# Altium footprint library CAP_SMD_CAN.PcbLib: 1 footprints
Each footprint in its own frame and in the unit in brackets; x right, y up, seen from the top. Pads: shape width x height; smd on the part's side, far side on the other; paste and mask are expansions set on the pad; w line width, h text height; cw(c..) or ccw(c..) is an arc to the next point about the centre after c.
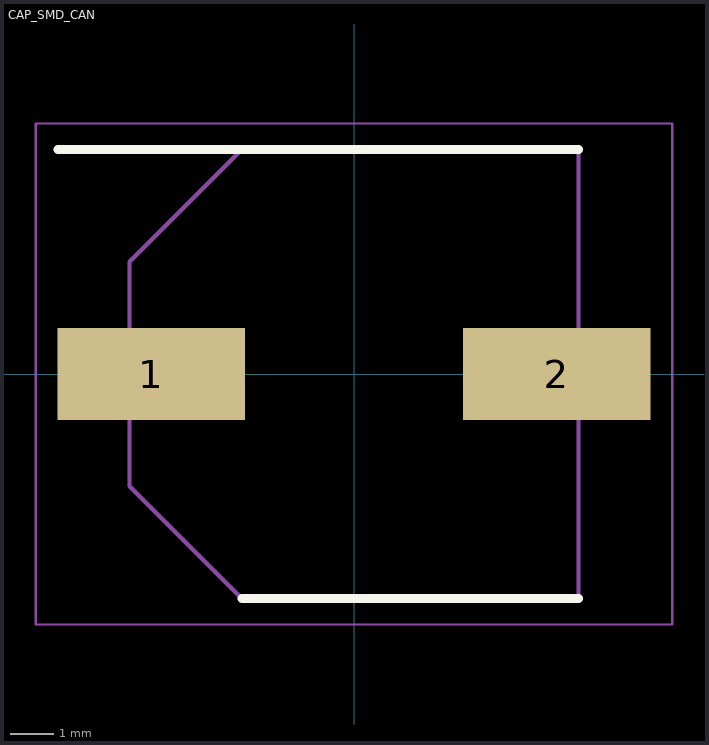
[diagram p0: the footprint, top view; thin cyan lines are the x and y axes]

## CAP_SMD_CAN [mm]
pads (2):
  rect 4.3x2.1 smd: 1(-4.65,0) 2(4.65,0)
Top Overlay:
  lines w0.2: -6.8,5.15 5.15,5.15 ; -2.575,-5.15 5.15,-5.15
Mechanical 13:
  lines w0.1: -5.15,-2.575 -5.15,2.575 -2.575,5.15 5.15,5.15 5.15,-5.15 -2.575,-5.15 -5.15,-2.575
Mechanical 15:
  lines w0.05: -7.3,-5.75 7.3,-5.75 7.3,5.75 -7.3,5.75 -7.3,-5.75
3D body "EEE-FK1V331AP.stp": height 10.5, standoff 0, extent -6.793,-5.207 5.207,5.293